# Altium schematic symbol library PESD0402-140.SchLib: 1 symbol
Pins are listed as number, name and electrical type; pins without a type are passive.

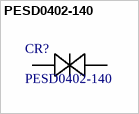
[diagram p0: symbol PESD0402-140]

## PESD0402-140
designator CR?
TVS DIODE 14VWM 40VC 0402; Manufacturer_Name: Littelfuse Inc; Copyright: Copyright (C) 2025 Ultra Librarian. All rights reserved.; MPN: PESD0402-140
footprint PESD0402-140_LTF
pins: 1, 2